# Altium schematic symbol library 1140084168.SchLib: 1 symbol
Pins are listed as number, name and electrical type; pins without a type are passive.

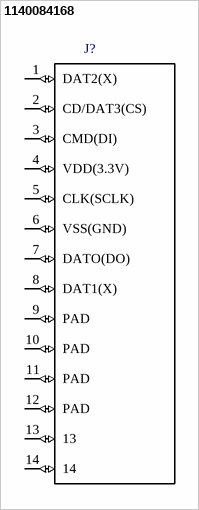
[diagram p0: symbol 1140084168]

## 1140084168
designator J?  (value not drawn)
Conn; IC Socket; Micro SD; Right Angle; PCB Mount; MicroSD Ser.; MP: 1140084168; MF: Amphenol ICC; Package: None; SnapEDA_Link: https://www.snapeda.com/parts/1140084168/Amphenol%20ICC/view-part/?ref=snap; Digi-Key_Purchase_URL: https://www.digikey.ca/product-detail/en/amphenol-icc-commercial-products/114-00841-68/114-00841-68-1-ND/2187101?utm_source=snapeda&utm_medium=aggregator&utm_campaign=symbol; Digi-Key_Part_Number: 114-00841-68-1-ND; Value: *
footprint *1140084168
pins: 1 DAT2(X) (io), 2 CD/DAT3(CS) (io), 3 CMD(DI) (io), 4 VDD(3.3V) (io), 5 CLK(SCLK) (io), 6 VSS(GND) (io), 7 DATO(DO) (io), 8 DAT1(X) (io), 9 PAD (io), 10 PAD (io), 11 PAD (io), 12 PAD (io), 13 (io), 14 (io)